# EAGLE library part MS500 (library eWBM)
e-wbm.com / ewbm.co.kr / ARM Cortex M0 + HW crypto MCU / MS500
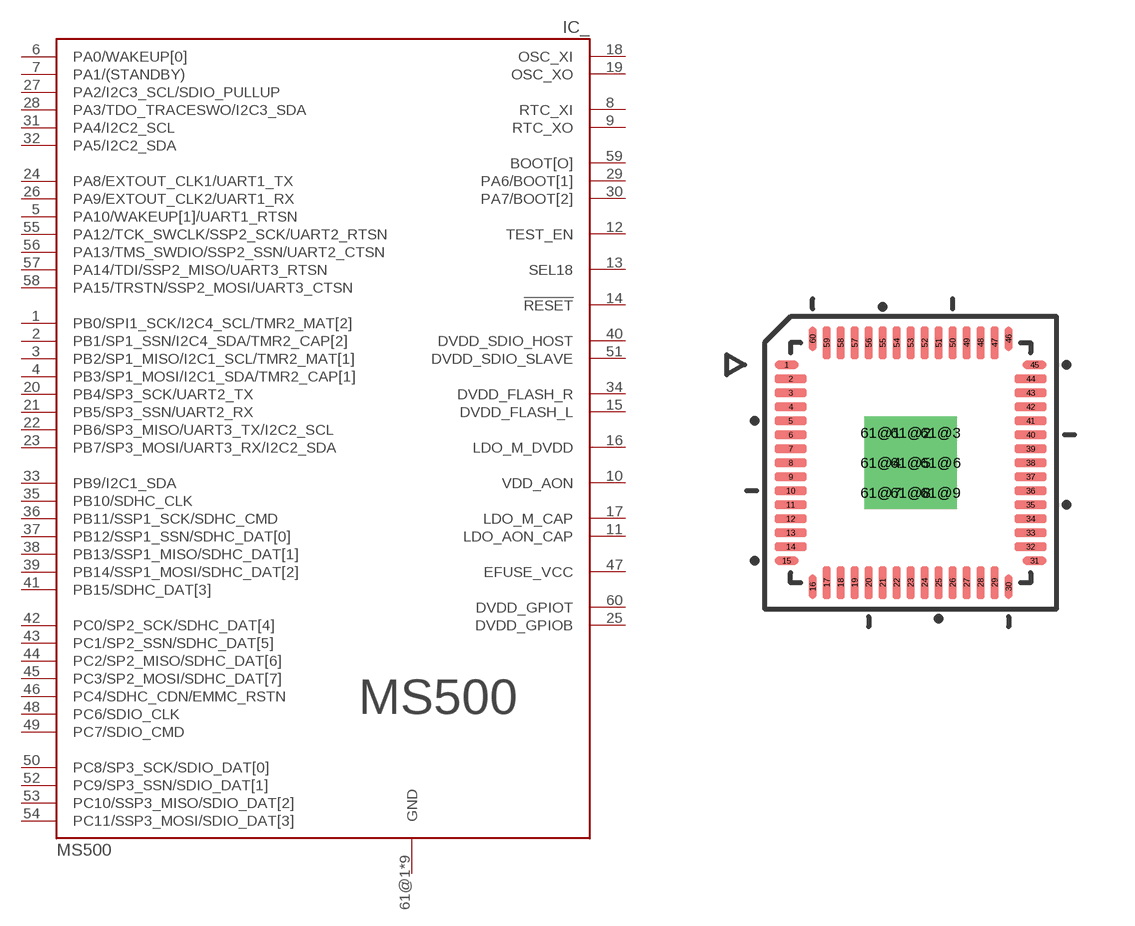
[diagram p0: symbol with the pads of LGA_60_6X6; footprint LGA_60_6X6]

Designator prefix IC_

## MS500  [LGA_60_6X6]
1  PB0/SPI1_SCK/I2C4_SCL/TMR2_MAT[2]
2  PB1/SP1_SSN/I2C4_SDA/TMR2_CAP[2]
3  PB2/SP1_MISO/I2C1_SCL/TMR2_MAT[1]
4  PB3/SP1_MOSI/I2C1_SDA/TMR2_CAP[1]
5  PA10/WAKEUP[1]/UART1_RTSN
6  PA0/WAKEUP[0]
7  PA1/(STANDBY)
8  RTC_XI
9  RTC_XO
10  VDD_AON
11  LDO_AON_CAP
12  TEST_EN
13  SEL18
14  !RESET
15  DVDD_FLASH_L
16  LDO_M_DVDD
17  LDO_M_CAP
18  OSC_XI
19  OSC_XO
20  PB4/SP3_SCK/UART2_TX
21  PB5/SP3_SSN/UART2_RX
22  PB6/SP3_MISO/UART3_TX/I2C2_SCL
23  PB7/SP3_MOSI/UART3_RX/I2C2_SDA
24  PA8/EXTOUT_CLK1/UART1_TX
25  DVDD_GPIOB
26  PA9/EXTOUT_CLK2/UART1_RX
27  PA2/I2C3_SCL/SDIO_PULLUP
28  PA3/TDO_TRACESWO/I2C3_SDA
29  PA6/BOOT[1]
30  PA7/BOOT[2]
31  PA4/I2C2_SCL
32  PA5/I2C2_SDA
33  PB9/I2C1_SDA
34  DVDD_FLASH_R
35  PB10/SDHC_CLK
36  PB11/SSP1_SCK/SDHC_CMD
37  PB12/SSP1_SSN/SDHC_DAT[0]
38  PB13/SSP1_MISO/SDHC_DAT[1]
39  PB14/SSP1_MOSI/SDHC_DAT[2]
40  DVDD_SDIO_HOST
41  PB15/SDHC_DAT[3]
42  PC0/SP2_SCK/SDHC_DAT[4]
43  PC1/SP2_SSN/SDHC_DAT[5]
44  PC2/SP2_MISO/SDHC_DAT[6]
45  PC3/SP2_MOSI/SDHC_DAT[7]
46  PC4/SDHC_CDN/EMMC_RSTN
47  EFUSE_VCC
48  PC6/SDIO_CLK
49  PC7/SDIO_CMD
50  PC8/SP3_SCK/SDIO_DAT[0]
51  DVDD_SDIO_SLAVE
52  PC9/SP3_SSN/SDIO_DAT[1]
53  PC10/SSP3_MISO/SDIO_DAT[2]
54  PC11/SSP3_MOSI/SDIO_DAT[3]
55  PA12/TCK_SWCLK/SSP2_SCK/UART2_RTSN
56  PA13/TMS_SWDIO/SSP2_SSN/UART2_CTSN
57  PA14/TDI/SSP2_MISO/UART3_RTSN
58  PA15/TRSTN/SSP2_MOSI/UART3_CTSN
59  BOOT[O]
60  DVDD_GPIOT
61@1  GND
61@2  GND
61@3  GND
61@4  GND
61@5  GND
61@6  GND
61@7  GND
61@8  GND
61@9  GND

## Footprint LGA_60_6X6 (pad centres in mm)
smd 0.6 x 0.2: 1 -3.1,2.45; 15 -3.1,-2.45; 31 3.1,-2.45; 45 3.1,2.45
smd 0.8 x 0.2: 2 -3,2.1; 3 -3,1.75; 4 -3,1.4; 5 -3,1.05; 6 -3,0.7; 7 -3,0.35; 8 -3,0; 9 -3,-0.35; 10 -3,-0.7; 11 -3,-1.05; 12 -3,-1.4; 13 -3,-1.75; 14 -3,-2.1; 32 3,-2.1; 33 3,-1.75; 34 3,-1.4; 35 3,-1.05; 36 3,-0.7; 37 3,-0.35; 38 3,0; 39 3,0.35; 40 3,0.7; 41 3,1.05; 42 3,1.4; 43 3,1.75; 44 3,2.1
smd 0.2 x 0.6: 16 -2.45,-3.1; 30 2.45,-3.1; 46 2.45,3.1; 60 -2.45,3.1
smd 0.2 x 0.8: 17 -2.1,-3; 18 -1.75,-3; 19 -1.4,-3; 20 -1.05,-3; 21 -0.7,-3; 22 -0.35,-3; 23 0,-3; 24 0.35,-3; 25 0.7,-3; 26 1.05,-3; 27 1.4,-3; 28 1.75,-3; 29 2.1,-3; 47 2.1,3; 48 1.75,3; 49 1.4,3; 50 1.05,3; 51 0.7,3; 52 0.35,3; 53 0,3; 54 -0.35,3; 55 -0.7,3; 56 -1.05,3; 57 -1.4,3; 58 -1.75,3; 59 -2.1,3
drill 0.3 square: 61@1 -0.75,0.75; 61@2 0,0.75; 61@3 0.75,0.75; 61@4 -0.75,0; 61@5 0,0; 61@6 0.75,0; 61@7 -0.75,-0.75; 61@8 0,-0.75; 61@9 0.75,-0.75